# EAGLE library part CC8530RHAT (library Texas Instruments)
SOC, RF, 2.4GHZ, PUREPATH, 40VQFN
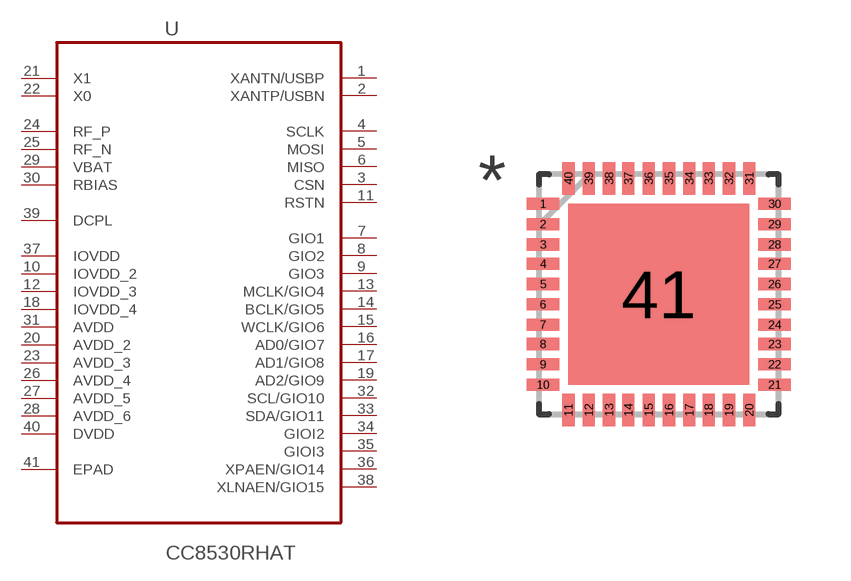
[diagram p0: symbol with the pads of QFN50P600X600X80-41N; footprint QFN50P600X600X80-41N]

Designator prefix U

## CC8530RHAT (MPN: CC8530RHAT; OC_FARNELL: 1909480; OC_NEWARK: 45T8080; PACKAGE: 40VQFN; SUPPLIER: Texas Instruments)  [QFN50P600X600X80-41N]
1  XANTN/USBP
2  XANTP/USBN
3  CSN  in
4  SCLK
5  MOSI
6  MISO
7  GIO1
8  GIO2
9  GIO3
10  IOVDD_2  pwr
11  RSTN  in
12  IOVDD_3  pwr
13  MCLK/GIO4
14  BCLK/GIO5
15  WCLK/GIO6
16  AD0/GIO7
17  AD1/GIO8
18  IOVDD_4  pwr
19  AD2/GIO9
20  AVDD_2  pwr
21  X1  pas
22  X0  pas
23  AVDD_3  pwr
24  RF_P  pas
25  RF_N  pas
26  AVDD_4  pwr
27  AVDD_5  pwr
28  AVDD_6  pwr
29  VBAT  pas
30  RBIAS  pas
31  AVDD  pwr
32  SCL/GIO10
33  SDA/GIO11
34  GIOI2
35  GIOI3
36  XPAEN/GIO14
37  IOVDD  pwr
38  XLNAEN/GIO15
39  DCPL  pas
40  DVDD  pwr
41  EPAD  pas

## Footprint QFN50P600X600X80-41N (pad centres in mm)
smd 0.813 x 0.305: 1 -2.896,2.261; 2 -2.896,1.753; 3 -2.896,1.245; 4 -2.896,0.762; 5 -2.896,0.254; 6 -2.896,-0.254; 7 -2.896,-0.762; 8 -2.896,-1.245; 9 -2.896,-1.753; 10 -2.896,-2.261; 21 2.896,-2.261; 22 2.896,-1.753; 23 2.896,-1.245; 24 2.896,-0.762; 25 2.896,-0.254; 26 2.896,0.254; 27 2.896,0.762; 28 2.896,1.245; 29 2.896,1.753; 30 2.896,2.261
smd 0.305 x 0.813: 11 -2.261,-2.896; 12 -1.753,-2.896; 13 -1.245,-2.896; 14 -0.762,-2.896; 15 -0.254,-2.896; 16 0.254,-2.896; 17 0.762,-2.896; 18 1.245,-2.896; 19 1.753,-2.896; 20 2.261,-2.896; 31 2.261,2.896; 32 1.753,2.896; 33 1.245,2.896; 34 0.762,2.896; 35 0.254,2.896; 36 -0.254,2.896; 37 -0.762,2.896; 38 -1.245,2.896; 39 -1.753,2.896; 40 -2.261,2.896
smd 4.521 x 4.521: 41 0,0